# Altium schematic symbol library 4D24-P4.Schlib: 1 symbol
Pins are listed as number, name and electrical type; pins without a type are passive.

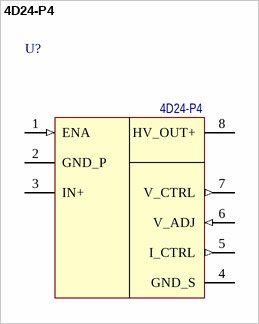
[diagram p0: symbol 4D24-P4]

## 4D24-P4
designator U?
Single-output micro-sized HV modules; Назначение: DC-DC преобразователь; Потребление, Вт: 0,5; Наименование: 4D24-P4
footprint 4D24-P4
pins: 1 ENA (in), 2 GND_P (power), 3 IN+ (power), 4 GND_S (power), 5 I_CTRL (out), 6 V_ADJ (in), 7 V_CTRL (out), 8 HV_OUT+ (power)